# Altium footprint library Hrafn.PcbLib: 22 footprints (part 2 of 2)
Each footprint in its own frame and in the unit in brackets; x right, y up, seen from the top. Pads: shape width x height; smd on the part's side, far side on the other; paste and mask are expansions set on the pad; w line width, h text height; cw(c..) or ccw(c..) is an arc to the next point about the centre after c.
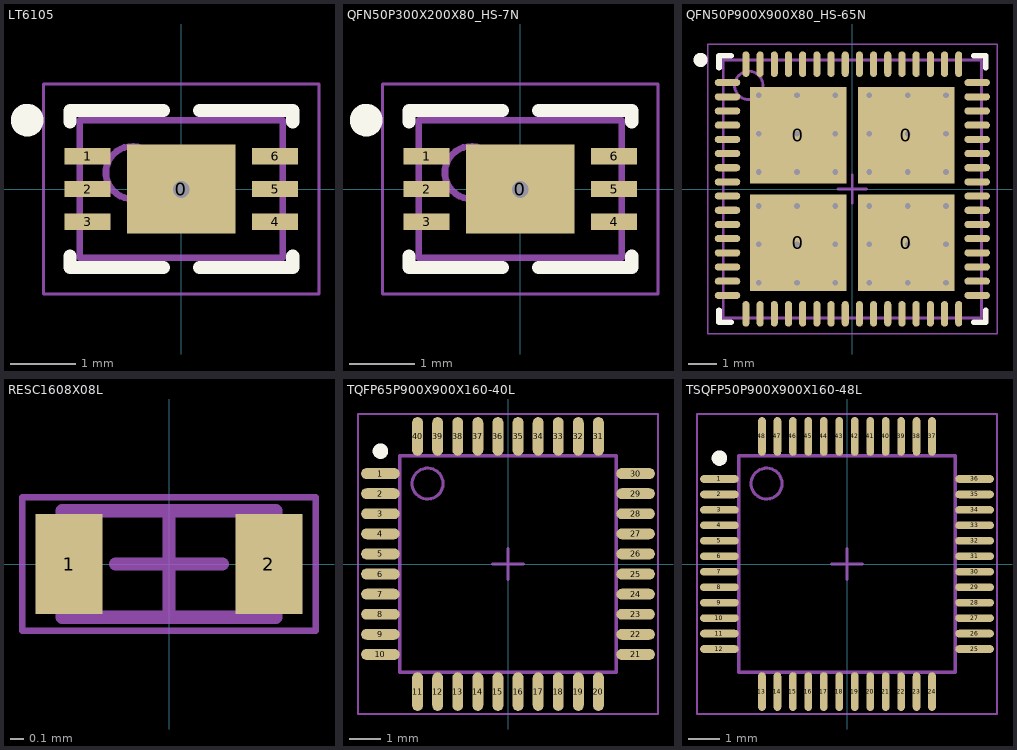
[diagram p1: the footprints below, top view; thin cyan lines are the x and y axes]

## LT6105 [mm] "QFN, 6-Leads, Body 3.00x2.00mm, Pitch 0.50mm, Thermal Pad 1.65x1.35mm, IPC Medium Density"
height 0.8
pads (7):
  rect 1.65x1.35 smd: 0(0,0)
  rect 0.7x0.25 smd: 1(-1.43,0.5) 2(-1.43,0) 3(-1.43,-0.5) 4(1.43,-0.5) 5(1.43,0) 6(1.43,0.5)
via 0,-0.008 diameter 0.61 hole 0.254
Top Overlay:
  circle w0.25: c-2.35,1.05 r0.125
  lines w0.2: -1.7,-1.025 -1.7,-1.2 -0.275,-1.2 ; -1.7,1.025 -1.7,1.2 -0.275,1.2 ; 0.275,-1.2 1.7,-1.2 1.7,-1.025 ; 0.275,1.2 1.7,1.2 1.7,1.025
Mechanical 13:
  circle w0.1: c-0.75,0.25 r0.4
  lines w0.1: -1.55,-1.05 1.55,-1.05 1.55,1.05 -1.55,1.05 -1.55,-1.05
Mechanical 15:
  lines w0.05: -2.1,-1.6 2.1,-1.6 2.1,1.6 -2.1,1.6 -2.1,-1.6
  lines w0.1: -0.5,0 0.5,0 ; 0,-0.5 0,0.5
3D body: height 0.8, standoff 0.02, extent -1.55,-1.05 1.55,1.05

## QFN50P300X200X80_HS-7N [mm] "QFN, 6-Leads, Body 3.00x2.00mm, Pitch 0.50mm, Thermal Pad 1.65x1.35mm, IPC Medium Density"
height 0.8
pads (7):
  rect 1.65x1.35 smd: 0(0,0)
  rect 0.7x0.25 smd: 1(-1.43,0.5) 2(-1.43,0) 3(-1.43,-0.5) 4(1.43,-0.5) 5(1.43,0) 6(1.43,0.5)
via 0,-0.008 diameter 0.61 hole 0.254
Top Overlay:
  circle w0.25: c-2.35,1.05 r0.125
  lines w0.2: -1.7,-1.025 -1.7,-1.2 -0.275,-1.2 ; -1.7,1.025 -1.7,1.2 -0.275,1.2 ; 0.275,-1.2 1.7,-1.2 1.7,-1.025 ; 0.275,1.2 1.7,1.2 1.7,1.025
Mechanical 13:
  circle w0.1: c-0.75,0.25 r0.4
  lines w0.1: -1.55,-1.05 -1.55,1.05 1.55,1.05 1.55,-1.05 -1.55,-1.05
Mechanical 15:
  lines w0.05: -2.1,-1.6 -2.1,1.6 2.1,1.6 2.1,-1.6 -2.1,-1.6
  lines w0.1: -0.5,0 0.5,0 ; 0,-0.5 0,0.5
3D body: height 0.8, standoff 0.02, extent -1.55,-1.05 1.55,1.05

## QFN50P900X900X80_HS-65N [mm] "QFN, 64-Leads, Body 9.00x9.00mm, Pitch 0.50mm, Thermal Pad 7.55x7.55mm, IPC Medium Density"
height 0.8
pads (68):
  rect 3.4x3.4 smd: 0(-1.9,-1.9) 0(-1.9,1.9) 0(1.9,-1.9) 0(1.9,1.9)
  oval 0.9x0.25 smd: 1(-4.4,3.75) 2(-4.4,3.25) 3(-4.4,2.75) 4(-4.4,2.25) 5(-4.4,1.75) 6(-4.4,1.25) 7(-4.4,0.75) 8(-4.4,0.25) 9(-4.4,-0.25) 10(-4.4,-0.75) 11(-4.4,-1.25) 12(-4.4,-1.75) 13(-4.4,-2.25) 14(-4.4,-2.75) 15(-4.4,-3.25) 16(-4.4,-3.75) 33(4.4,-3.75) 34(4.4,-3.25) 35(4.4,-2.75) 36(4.4,-2.25) 37(4.4,-1.75) 38(4.4,-1.25) 39(4.4,-0.75) 40(4.4,-0.25) 41(4.4,0.25) 42(4.4,0.75) 43(4.4,1.25) 44(4.4,1.75) 45(4.4,2.25) 46(4.4,2.75) 47(4.4,3.25) 48(4.4,3.75)
  oval 0.25x0.9 smd: 17(-3.75,-4.4) 18(-3.25,-4.4) 19(-2.75,-4.4) 20(-2.25,-4.4) 21(-1.75,-4.4) 22(-1.25,-4.4) 23(-0.75,-4.4) 24(-0.25,-4.4) 25(0.25,-4.4) 26(0.75,-4.4) 27(1.25,-4.4) 28(1.75,-4.4) 29(2.25,-4.4) 30(2.75,-4.4) 31(3.25,-4.4) 32(3.75,-4.4) 49(3.75,4.4) 50(3.25,4.4) 51(2.75,4.4) 52(2.25,4.4) 53(1.75,4.4) 54(1.25,4.4) 55(0.75,4.4) 56(0.25,4.4) 57(-0.25,4.4) 58(-0.75,4.4) 59(-1.25,4.4) 60(-1.75,4.4) 61(-2.25,4.4) 62(-2.75,4.4) 63(-3.25,4.4) 64(-3.75,4.4)
via 3.3,-3.3 diameter 0.5 hole 0.2
via 1.95,-3.3 diameter 0.5 hole 0.2
via 0.6,-3.3 diameter 0.5 hole 0.2
via -0.6,-3.3 diameter 0.5 hole 0.2
via -1.95,-3.3 diameter 0.5 hole 0.2
via -3.3,-3.3 diameter 0.5 hole 0.2
via 3.3,-1.95 diameter 0.5 hole 0.2
via 1.95,-1.95 diameter 0.5 hole 0.2
via 0.6,-1.95 diameter 0.5 hole 0.2
via -0.6,-1.95 diameter 0.5 hole 0.2
via -1.95,-1.95 diameter 0.5 hole 0.2
via -3.3,-1.95 diameter 0.5 hole 0.2
via 3.3,-0.6 diameter 0.5 hole 0.2
via 1.95,-0.6 diameter 0.5 hole 0.2
via 0.6,-0.6 diameter 0.5 hole 0.2
via -0.6,-0.6 diameter 0.5 hole 0.2
via -1.95,-0.6 diameter 0.5 hole 0.2
via -3.3,-0.6 diameter 0.5 hole 0.2
via 3.3,0.6 diameter 0.5 hole 0.2
via 1.95,0.6 diameter 0.5 hole 0.2
via 0.6,0.6 diameter 0.5 hole 0.2
via -0.6,0.6 diameter 0.5 hole 0.2
via -1.95,0.6 diameter 0.5 hole 0.2
via -3.3,0.6 diameter 0.5 hole 0.2
via 3.3,1.95 diameter 0.5 hole 0.2
via 1.95,1.95 diameter 0.5 hole 0.2
via 0.6,1.95 diameter 0.5 hole 0.2
via -0.6,1.95 diameter 0.5 hole 0.2
via -1.95,1.95 diameter 0.5 hole 0.2
via -3.3,1.95 diameter 0.5 hole 0.2
via 3.3,3.3 diameter 0.5 hole 0.2
via 1.95,3.3 diameter 0.5 hole 0.2
via 0.6,3.3 diameter 0.5 hole 0.2
via -0.6,3.3 diameter 0.5 hole 0.2
via -1.95,3.3 diameter 0.5 hole 0.2
via -3.3,3.3 diameter 0.5 hole 0.2
Top Overlay:
  circle w0.25: c-5.35,4.55 r0.125
  lines w0.2: -4.7,-4.275 -4.7,-4.7 -4.275,-4.7 ; -4.7,4.275 -4.7,4.7 -4.275,4.7 ; 4.275,-4.7 4.7,-4.7 4.7,-4.275 ; 4.275,4.7 4.7,4.7 4.7,4.275
Mechanical 13:
  circle w0.1: c-3.65,3.65 r0.5
  lines w0.1: -4.55,-4.55 4.55,-4.55 4.55,4.55 -4.55,4.55 -4.55,-4.55
Mechanical 15:
  lines w0.05: -5.1,-5.1 5.1,-5.1 5.1,5.1 -5.1,5.1 -5.1,-5.1
  lines w0.1: -0.5,0 0.5,0 ; 0,-0.5 0,0.5
3D body: height 0.8, standoff 0.01, extent -4.55,-4.55 4.55,4.55

## RESC1608X08L [mm] "Chip Resistor, 2-Leads, Body 1.60x0.80mm, IPC High Density"
height 0.8
pads (2):
  rect 0.5x0.75 smd: 1(-0.75,0) 2(0.75,0)
Mechanical 13:
  lines w0.1: -0.8,-0.4 0.8,-0.4 0.8,0.4 -0.8,0.4 -0.8,-0.4
Mechanical 15:
  lines w0.05: -1.1,-0.5 1.1,-0.5 1.1,0.5 -1.1,0.5 -1.1,-0.5
  lines w0.1: -0.4,0 0.4,0 ; 0,-0.4 0,0.4
3D body: height 0.8, standoff 0, extent 0.6,-0.4 0.8,0.4
3D body: height 0.8, standoff 0, extent -0.8,-0.4 -0.6,0.4
3D body: height 0.8, standoff 0, extent -0.6,-0.4 0.6,0.4

## TQFP65P900X900X160-40L [mm] "TQFP, 40-Leads, Body 7.00x7.00mm, Pitch 0.65mm, IPC High Density"
height 1.6
pads (40):
  oval 1.25x0.35 smd: 1(-4.125,2.925) 2(-4.125,2.275) 3(-4.125,1.625) 4(-4.125,0.975) 5(-4.125,0.325) 6(-4.125,-0.325) 7(-4.125,-0.975) 8(-4.125,-1.625) 9(-4.125,-2.275) 10(-4.125,-2.925) 21(4.125,-2.925) 22(4.125,-2.275) 23(4.125,-1.625) 24(4.125,-0.975) 25(4.125,-0.325) 26(4.125,0.325) 27(4.125,0.975) 28(4.125,1.625) 29(4.125,2.275) 30(4.125,2.925)
  oval 0.35x1.25 smd: 11(-2.925,-4.125) 12(-2.275,-4.125) 13(-1.625,-4.125) 14(-0.975,-4.125) 15(-0.325,-4.125) 16(0.325,-4.125) 17(0.975,-4.125) 18(1.625,-4.125) 19(2.275,-4.125) 20(2.925,-4.125) 31(2.925,4.125) 32(2.275,4.125) 33(1.625,4.125) 34(0.975,4.125) 35(0.325,4.125) 36(-0.325,4.125) 37(-0.975,4.125) 38(-1.625,4.125) 39(-2.275,4.125) 40(-2.925,4.125)
Top Overlay:
  circle w0.25: c-4.125,3.65 r0.125
Mechanical 13:
  circle w0.1: c-2.6,2.6 r0.5
  lines w0.1: -3.5,-3.5 -3.5,3.5 3.5,3.5 3.5,-3.5 -3.5,-3.5
Mechanical 15:
  lines w0.05: -4.85,-4.85 -4.85,4.85 4.85,4.85 4.85,-4.85 -4.85,-4.85
  lines w0.1: -0.5,0 0.5,0 ; 0,-0.5 0,0.5
3D body: height 1.6, standoff 0.08, extent -3.5,-3.5 3.5,3.5

## TSQFP50P900X900X160-48L [mm] "TSQFP, 48-Leads, Body 7.00x7.00mm, Pitch 0.50mm, IPC High Density"
height 1.6
pads (48):
  oval 1.25x0.25 smd: 1(-4.125,2.75) 2(-4.125,2.25) 3(-4.125,1.75) 4(-4.125,1.25) 5(-4.125,0.75) 6(-4.125,0.25) 7(-4.125,-0.25) 8(-4.125,-0.75) 9(-4.125,-1.25) 10(-4.125,-1.75) 11(-4.125,-2.25) 12(-4.125,-2.75) 25(4.125,-2.75) 26(4.125,-2.25) 27(4.125,-1.75) 28(4.125,-1.25) 29(4.125,-0.75) 30(4.125,-0.25) 31(4.125,0.25) 32(4.125,0.75) 33(4.125,1.25) 34(4.125,1.75) 35(4.125,2.25) 36(4.125,2.75)
  oval 0.25x1.25 smd: 13(-2.75,-4.125) 14(-2.25,-4.125) 15(-1.75,-4.125) 16(-1.25,-4.125) 17(-0.75,-4.125) 18(-0.25,-4.125) 19(0.25,-4.125) 20(0.75,-4.125) 21(1.25,-4.125) 22(1.75,-4.125) 23(2.25,-4.125) 24(2.75,-4.125) 37(2.75,4.125) 38(2.25,4.125) 39(1.75,4.125) 40(1.25,4.125) 41(0.75,4.125) 42(0.25,4.125) 43(-0.25,4.125) 44(-0.75,4.125) 45(-1.25,4.125) 46(-1.75,4.125) 47(-2.25,4.125) 48(-2.75,4.125)
Top Overlay:
  circle w0.25: c-4.125,3.425 r0.125
Mechanical 13:
  circle w0.1: c-2.6,2.6 r0.5
  lines w0.1: -3.5,-3.5 3.5,-3.5 3.5,3.5 -3.5,3.5 -3.5,-3.5
Mechanical 15:
  lines w0.05: -4.85,-4.85 4.85,-4.85 4.85,4.85 -4.85,4.85 -4.85,-4.85
  lines w0.1: -0.5,0 0.5,0 ; 0,-0.5 0,0.5
3D body: height 1.6, standoff 0.08, extent -3.5,-3.5 3.5,3.5